# EAGLE library part GPBS-800 (library Components Library)
DPDT Pushbutton Switch
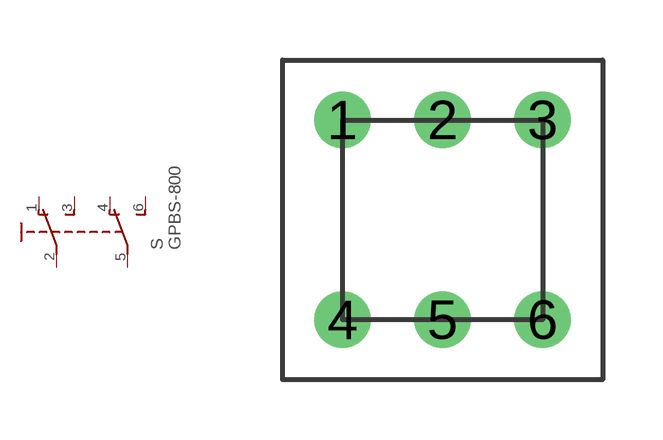
[diagram p18: symbol with the pads of GPBS-800; footprint GPBS-800]

Designator prefix S

## GPBS-800N  [GPBS-800]
1  O  pas
2  P  pas
3  S  pas
4  O1  pas
5  P1  pas
6  S1  pas

## Footprint GPBS-800 (pad centres in mm)
drill 0.9: 1 -2.5,2.5; 2 0,2.5; 3 2.5,2.5; 4 -2.5,-2.5; 5 0,-2.5; 6 2.5,-2.5